# Altium footprint library On_Semiconductor_SBAT54CTT1G_0.PcbLib: 1 footprints
Each footprint in its own frame and in the unit in brackets; x right, y up, seen from the top. Pads: shape width x height; smd on the part's side, far side on the other; paste and mask are expansions set on the pad; w line width, h text height; cw(c..) or ccw(c..) is an arc to the next point about the centre after c.
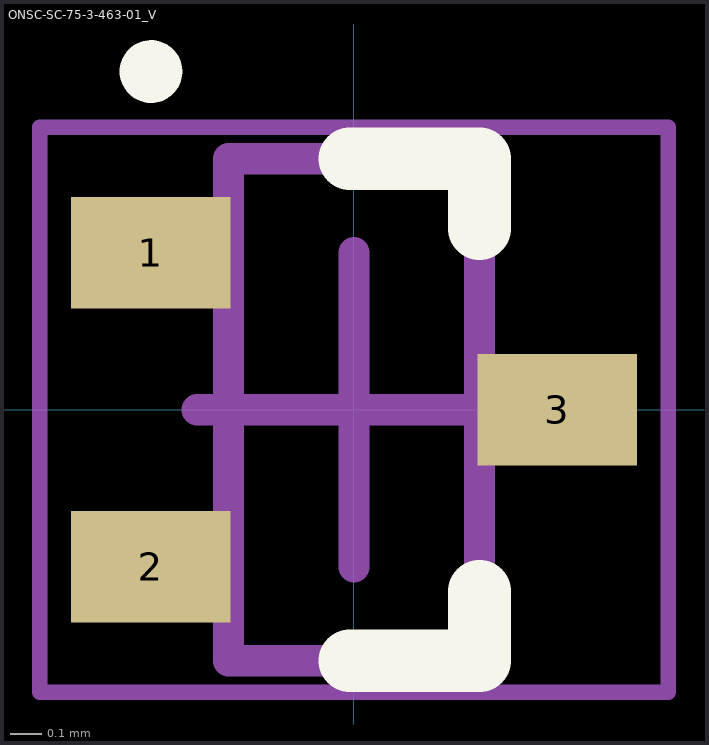
[diagram p0: the footprint, top view; thin cyan lines are the x and y axes]

## ONSC-SC-75-3-463-01_V [mil] "SOT23, 3-Leads, Body 1.6x0.8mm, Pitch 0.5mm"
height 35.43
pads (3):
  rect 20x14.02 smd: 1(-25.49,19.68) 2(-25.49,-19.69) 3(25.49,0)
Top Overlay:
  circle w3.94: c-25.47,42.44 r1.97
  lines w7.87: -0.5,-31.5 15.75,-31.5 15.75,-22.76 ; -0.5,31.5 15.75,31.5 15.75,22.76
Mechanical 13:
  lines w3.94: -15.75,-31.5 -15.75,31.5 15.75,31.5 15.75,-31.5 -15.75,-31.5
Mechanical 15:
  lines w1.97: -39.43,-35.43 -39.43,35.43 39.43,35.43 39.43,-35.43 -39.43,-35.43
  lines w3.94: -19.68,0 19.69,0 ; 0,-19.69 0,19.68
3D body: height 35.43, standoff 0, extent -15.75,-31.5 15.75,31.5